# EAGLE library part 690207100672 (library Wire-to-Board)
WR-MM Transition Connector, 6 Pins=>Code : WR-MM_Leiterplattenverbinder_690207100672 <http://katalog.we-online.de/media/thumbs2/eican/thb_WR-MM_Leiterplattenverbinder_690207101072.jpg> Details see: http://katalog.we-online.de/en/em/6902_0710_xx_72 Created 2014-06-04, Karrer Zheng 2014 (C) Würth Elektronik
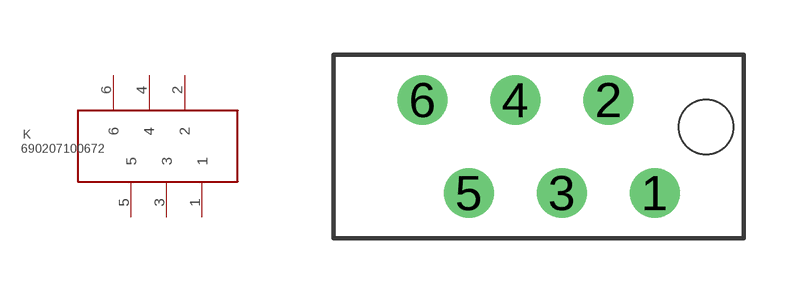
[diagram p91: symbol with the pads of 690207100672; footprint 690207100672]

Designator prefix K

## 690207100672  [690207100672]
1  1  pas
2  2  pas
3  3  pas
4  4  pas
5  5  pas
6  6  pas

## Footprint 690207100672 (pad centres in mm)
WR-MM Transition Connector, 6 Pins
drill 0.85: 1 0.635,-1.27; 2 -0.635,1.27; 3 -1.905,-1.27; 4 -3.175,1.27; 5 -4.445,-1.27; 6 -5.715,1.27
hole 1.5 at 2.035,0.53